# Altium footprint library 0603.PcbLib: 1 footprints
Each footprint in its own frame and in the unit in brackets; x right, y up, seen from the top. Pads: shape width x height; smd on the part's side, far side on the other; paste and mask are expansions set on the pad; w line width, h text height; cw(c..) or ccw(c..) is an arc to the next point about the centre after c.
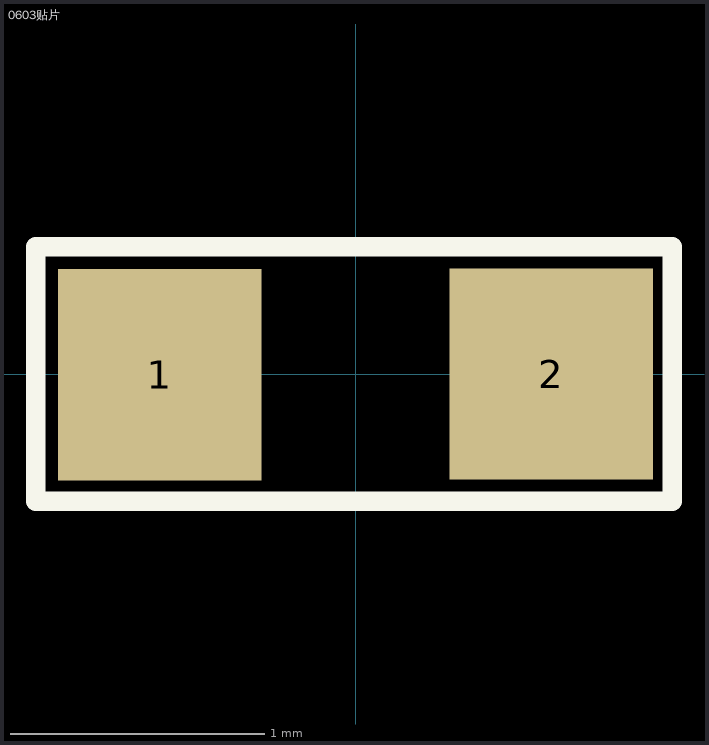
[diagram p0: the footprint, top view; thin cyan lines are the x and y axes]

## 0603贴片 [mm] "1.6mm*0.8mm"
pads (2):
  rect 0.8x0.83 smd: 1(-0.769,-0.001) 2(0.769,0.002)
Top Overlay:
  lines w0.076: -1.256,-0.498 1.244,-0.498 1.244,0.502 -1.256,0.502 -1.256,-0.498